# Altium footprint library USR-C215-PCB封装.PcbLib: 1 footprints
Each footprint in its own frame and in the unit in brackets; x right, y up, seen from the top. Pads: shape width x height; smd on the part's side, far side on the other; paste and mask are expansions set on the pad; w line width, h text height; cw(c..) or ccw(c..) is an arc to the next point about the centre after c.
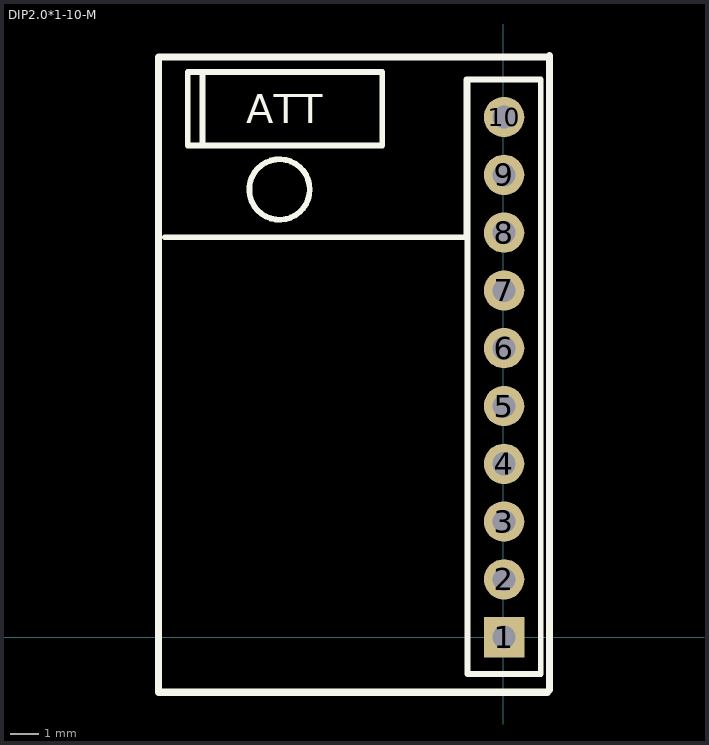
[diagram p0: the footprint, top view; thin cyan lines are the x and y axes]

## DIP2.0*1-10-M [mil]
pads (10):
  rect 55x55 hole 31.5: 1(1,0)
  round 55 hole 31.5: 2(1,78.74) 3(1,157.48) 4(1,236.22) 5(1,314.96) 6(1,393.7) 7(1,472.44) 8(1,551.18) 9(1,629.92) 10(1,708.66)
Top Overlay:
  circle w7.87: c-305,610 r41.23
  lines w8: -461.31,545 -50,545 -50,760 ; -415,770 -410,770 -410,670 ; -430,670 -430,770 -165,770 -165,670 -430,670 ; -49,-50 51,-50 51,760 -49,760 -49,-50
  lines w10: 60,-75 -470,-75 -470,790.64 61.5,790.64 ; 63,-72 63,792.14
  text "ATT" at -350,700 h40